# Altium schematic symbol library Components.SchLib: 1 symbol
Pins are listed as number, name and electrical type; pins without a type are passive.

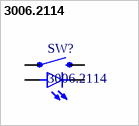
[diagram p0: symbol 3006.2114]

## 3006.2114
designator SW?
Manufacturer: Marquadt; PartNumber: 3006.2114; Mounting Technology: Surface Mount
footprint PCBComponent_1
pins: 1, 2, A, K